# Altium integrated library RFM95rev1.IntLib: 2 symbols
Pins are listed as number, name and electrical type; pins without a type are passive.

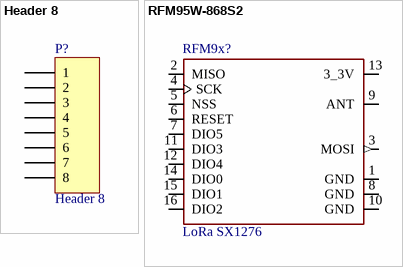
[diagram p0: symbols Header 8 to RFM95W-868S2]

## Header 8
designator P?
Header, 8-Pin; LatestRevisionDate: 17-Jul-2002; LatestRevisionNote: Re-released for DXP Platform.; Publisher: Altium Limited
footprint HDR1X8 (Connector; Header; 8 Position)
signal-integrity model Connector
pins: 1, 2, 3, 4, 5, 6, 7, 8

## RFM95W-868S2
designator RFM9x?, comment LoRa SX1276
MF: RF; MP: RFM95W-868S2; Package: SMD-16 Hope Microelectronics; Price: 7.72 USD; Availability: Unavailable
footprint XCVR_RFM95W-868S2
pins: 1 GND (power), 2 MISO, 3 MOSI (out), 4 SCK, 5 NSS, 6 RESET, 7 DIO5, 8 GND (power), 9 ANT, 10 GND (power), 11 DIO3, 12 DIO4, 13 3_3V (power), 14 DIO0, 15 DIO1, 16 DIO2